# Altium schematic symbol library 16Transmit_demo.SCHLIB: 51 symbols
Pins are listed as number, name and electrical type; pins without a type are passive.

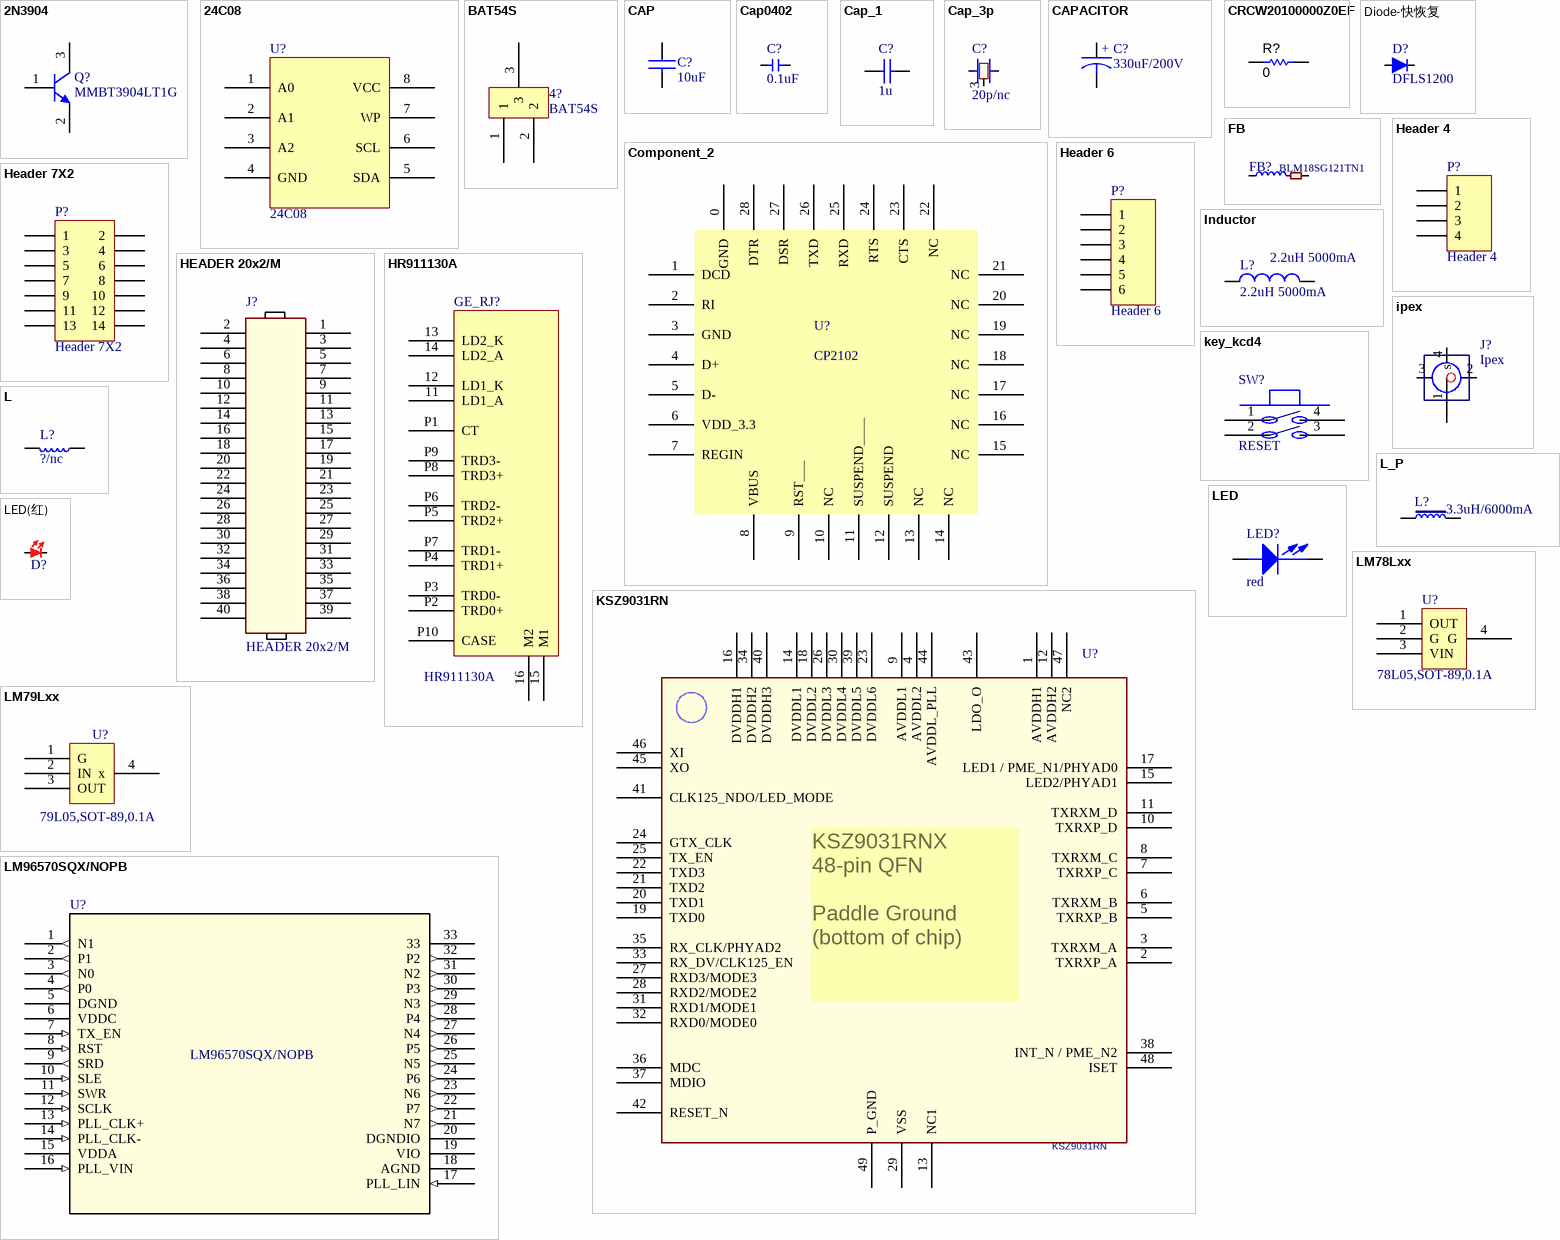
[diagram p0: symbols 2N3904 to LM96570SQX/NOPB]

## 2N3904
designator Q?, comment MMBT3904LT1G
NPN General Purpose Amplifier; Published: 8-Jun-2000; LatestRevisionDate: 15-Jan-2003; LatestRevisionNote: PCB Footprint 'BCY-W3/D4.7' replaced; DatasheetVersion: 1997; PackageVersion: Sep-1998; PackageReference: TO-92A; Publisher: Altium Limited; PackageDescription: TO, Flat Index; 3 In-Line, Axial Leads; Body Dia. 4.5mm; Leads 0.51 x 0.48 mm (max); ComponentLink1Description: Manufacturer Link; ComponentLink1URL: http://www.fairchildsemi.com/; ComponentLink2Description: Datasheet; ComponentLink2URL: http://www.fairchildsemi.com/ds/2N%2F2N3904.pdf
simulation model 2N3904 (NPN)
signal-integrity model 2N3904
footprint SOT-23
pins: 1 B, 2 E, 3 C

## 24C08
designator U?
footprint 8S1_SOIC8
pins: 1 A0, 2 A1, 3 A2, 4 GND, 5 SDA, 6 SCL, 7 WP, 8 VCC

## BAT54S
designator 4?
footprint SOT-23
pins: 1, 2, 3

## CAP
designator C?, comment 10uF
footprint 0805
footprint C0805
pins: 1, 2

## Cap0402
designator C?, comment 0.1uF
Ceramic Cap; Published: 8-Jun-2000; LatestRevisionDate: 17-Jul-2002; LatestRevisionNote: Re-released for DXP Platform.; PackageReference: RAD-0.3; Publisher: Altium Limited
footprint RAD-0.3 (Capacitor; 2 Leads)
footprint VP32-3.2 (Capacitor, Ceramic, Thru-Hole, Dipped Radial; Body 5.1 x 3.2 mm (WxT) Pin Spacing 2.54 mm (typ))
footprint VP45-3.2 (Capacitor, Ceramic, Thru-Hole, Dipped Radial; Body 7.8 x 3.2 mm (WxT) Pin Spacing 5.08 mm (typ))
footprint C0603
footprint C0402
footprint SC0603
pins: 1, 2

## Cap_1
designator C?, comment 1u
TDK,C1608X5R0J105K,1u/0603; Published: 8-Jun-2000; Revision: July-2002: Re-released for DXP Platform.; Publisher: Altium Limited
footprint 0603
footprint 1206
footprint 0805
footprint CAP_3KV
footprint 0402
footprint SC0603
pins: 1, 2

## Cap_3p
designator C?, comment 20p/nc
Capacitor; Published: 8-Jun-2000; Revision: July-2002: Re-released for DXP Platform.; Publisher: Altium Limited
footprint C0805-3P (C0805，NFM or NFL)
pins: 1, 2, 3 G

## CAPACITOR
designator C?, comment 330uF/200V
Capacitor
footprint PEG225-27
footprint CAP_SMD9
footprint 1206
footprint 7343
footprint P1812 (Chip Capacitor; Body 4.5 x 3.2 mm (LxW typ))
footprint CAP-17mm-7mm (body17mm,pin-pitch7mm)
footprint CAP_SMD7 (body7mm)
footprint CAP_SMD12_5
footprint CAP-TH_BD22.0-P10.00-D2.3-FD
pins: 1, 2
text: +

## Component_2
designator U?, comment CP2102
footprint CP2102
footprint CP2102
pins: 0 GND (power), 1 DCD (oc), 2 RI (oc), 3 GND (oc), 4 D+ (oc), 5 D- (oc), 6 VDD_3.3 (oc), 7 REGIN (oc), 8 VBUS (oc), 9 RST___ (oc), 10 NC (oc), 11 SUSPEND____ (oc), 12 SUSPEND (oc), 13 NC (oc), 14 NC (oc), 15 NC (oc), 16 NC (oc), 17 NC (oc), 18 NC (oc), 19 NC (oc), 20 NC (oc), 21 NC (oc), 22 NC (oc), 23 CTS (oc), 24 RTS (oc), 25 RXD (oc), 26 TXD (oc), 27 DSR (oc), 28 DTR (oc)

## CRCW20100000Z0EF
designator R?  ValueDisplayed: 0  (hidden comment: CRCW20100000Z0EF)
RES, 0, 5%, 0.75 W, AEC-Q200 Grade 0, 2010; Manufacturer: Vishay-Dale; CompType: Resistor; Value: 0; Value_Code: 0000; Tolerance_%: 5; Power_W: 0.75; Value2: 0.75W; TempCo: ppm/C; SizeArea_mm2: 12.5; SizeY_mm: 2.5; SizeZ_mm: 1.66; EIA_Code: E24; U/M: EA; AEC Category: Q200; AEC Qualified: Y; SymbolVersion: 2009-05-29; PartNumber: CRCW20100000Z0EF; PackageReference: 2010; RoHS: Y; Res_ohm: 0; Value1: 5%; MountType: SMT; Technology: Thick Film; SizeX_mm: 5; Published: 2008-06-26; Publisher: Texas Instruments; LatestRevisionDate: 2017-04-20; ComponentLink1Description: Datasheet link; ComponentLink1URL: http://www.vishay.com/doc?20035; Supplier 1: Digi-Key; Supplier Part Number 1: 541-0.0WCT-ND; AEC Grade: 0
signal-integrity model Resistor
simulation model Resistor
footprint 2010M
footprint 2010L (pitch=4.3mm)
pins: 1, 2

## Diode-快恢复
designator D?, comment DFLS1200
DFLS1200,VR200V,DIODES INCOR
footprint D1605-DIP
footprint D8060-SMD
footprint D7227-SMD-SS(1-3)4
footprint D1206-2N
footprint DFN2510P10E
pins: 1 A, 2 K

## FB
designator FB?, comment BLM18SG121TN1
Ferrite Bead,120R@100M,25%,3000mA,0603; Published: 8-Jun-2000; Revision: July-2002: Re-released for DXP Platform.; Publisher: Altium Limited
footprint 0603
footprint 1206
footprint 0805
footprint 2512
footprint L0603
footprint SL0603
pins: 1, 2
1 alternate drawing of the same symbol

## Header 4
designator P?
Header, 4-Pin; LatestRevisionDate: 17-Jul-2002; LatestRevisionNote: Re-released for DXP Platform.; Publisher: Altium Limited
footprint CONN-TH_4P-P3.81_KF2EDGR-3.81-4P
pins: 1, 2, 3, 4

## Header 6
designator P?
接插件; LatestRevisionDate: 17-Jul-2002; LatestRevisionNote: Re-released for DXP Platform.; Publisher: Altium Limited
footprint CONN-TH_6P-P3.81_KF2EDGR-3.81-6P
pins: 1, 2, 3, 4, 5, 6

## Header 7X2
designator P?
Header, 7-Pin, Dual row; LatestRevisionDate: 17-Jul-2002; LatestRevisionNote: Re-released for DXP Platform.; Publisher: Altium Limited
signal-integrity model Connector
footprint IDC-TH_14P-P2.00-V-M-R2-C7-S2.00
pins: 1, 2, 3, 4, 5, 6, 7, 8, 9, 10, 11, 12, 13, 14

## HEADER 20x2/M
designator J?
footprint IDC-40J
pins: 1, 2, 3, 4, 5, 6, 7, 8, 9, 10, 11, 12, 13, 14, 15, 16, 17, 18, 19, 20, 21, 22, 23, 24, 25, 26, 27, 28, 29, 30, 31, 32, 33, 34, 35, 36, 37, 38, 39, 40

## HR911130A
designator GE_RJ?
footprint GE_RJ45; pin to pad P1>1 P2>2 P3>3 P4>4 P5>5 P6>6 P7>7 P8>8 P9>9 P10>10
pins: 11 LD1_A, 12 LD1_K, 13 LD2_K, 14 LD2_A, 15 M1, 16 M2, P1 CT, P2 TRD0+, P3 TRD0-, P4 TRD1+, P5 TRD2+, P6 TRD2-, P7 TRD1-, P8 TRD3+, P9 TRD3-, P10 CASE

## Inductor
designator L?, comment 2.2uH 5000mA
Inductor; Code_IEC: 1005; Published: 8-Jun-2000; LatestRevisionDate: 29-May-2009; LatestRevisionNote: IPC-7351 Footprint Added.; PackageReference: 0402-A; Publisher: Altium Limited; PackageDescription: Chip Inductor; Code_JEITA: 0402; Value: 2.2uH 5000mA
footprint 0402-A (Chip Inductor, Body 1.0x0.5mm, IPC High Density)
footprint INDC1608L (Chip Inductor, Body 1.6x0.8mm, IPC High Density)
footprint 2029 (Chip Inductor, Body 2.0x1.2mm, IPC High Density)
footprint 0603 (Chip Inductor, Body 0.6x0.3mm, IPC High Density)
footprint INDC3216 (Chip Inductor, Body 3.2x1.6mm, IPC High Density)
footprint INDC4532 (Chip Inductor, Body 4.5x3.2mm, IPC High Density)
simulation model INDUCTOR (Inductor)
signal-integrity model Inductor
footprint L0402
footprint IND-SMD_L5.4-W5.2_FXL0530
pins: 1, 2

## ipex
designator J?, comment Ipex
ULF, IPX 20279-001E , 3*3*1.25MM ,50Ω,0-4GHZ
footprint ipex-4p (4 pin,pad pitch 2.6mm,cylinder 2mm)
pins: 1 s, 2 g, 3 g2, 4 g3

## key_kcd4
designator SW?, comment RESET
footprint key_kcd4 (kcd4,4pin,32*25)
footprint SW_PB4
footprint pb (CFP, 4-Leads, Body 5.1x5.1mm (max), Pitch 2.50mm, IPC Medium Density)
pins: 1, 2, 3, 4

## KSZ9031RN
designator U?
footprint LQFP-48
footprint QFN-48_L7.0-W7.0-P0.50
pins: 1 AVDDH1, 2 TXRXP_A, 3 TXRXM_A, 4 AVDDL2, 5 TXRXP_B, 6 TXRXM_B, 7 TXRXP_C, 8 TXRXM_C, 9 AVDDL1, 10 TXRXP_D, 11 TXRXM_D, 12 AVDDH2, 13 NC1, 14 DVDDL1, 15 LED2/PHYAD1, 16 DVDDH1, 17 LED1 / PME_N1/PHYAD0, 18 DVDDL2, 19 TXD0, 20 TXD1, 21 TXD2, 22 TXD3, 23 DVDDL6, 24 GTX_CLK, 25 TX_EN, 26 DVDDL3, 27 RXD3/MODE3, 28 RXD2/MODE2, 29 VSS, 30 DVDDL4, 31 RXD1/MODE1, 32 RXD0/MODE0, 33 RX_DV/CLK125_EN, 34 DVDDH2, 35 RX_CLK/PHYAD2, 36 MDC, 37 MDIO, 38 INT_N / PME_N2, 39 DVDDL5, 40 DVDDH3, 41 CLK125_NDO/LED_MODE, 42 RESET_N, 43 LDO_O, 44 AVDDL_PLL, 45 XO, 46 XI, 47 NC2, 48 ISET, 49 P_GND
text: KSZ9031RNX / 48-pin QFN / Paddle Ground / (bottom of chip)

## L
designator L?, comment ?/nc
inductor; Published: 8-Jun-2000; Revision: July-2002: Re-released for DXP Platform.; Publisher: Altium Limited
footprint 0603
footprint 1206
footprint 0805
footprint 2512
footprint L0603
footprint SL0603
pins: 1, 2
1 alternate drawing of the same symbol

## L_P
designator L?, comment 3.3uH/6000mA
power inductor,magetic shild,7x7mm; Published: 8-Jun-2000; Revision: July-2002: Re-released for DXP Platform.; Publisher: Altium Limited
footprint 0603
footprint 1206
footprint 0805
footprint 2512
footprint CDRH6D38NP_5R
footprint COILCRAFT-1008PS
pins: 1, 2
1 alternate drawing of the same symbol

## LED
designator LED?, comment red
footprint LED0603
pins: 1 ANODE, 2 CATHODE

## LED(红)
designator D?  (value not drawn)
footprint LED0603
pins: 1, 2

## LM78Lxx
designator U?, comment 78L05,SOT-89,0.1A
footprint SOT-89 (SOT-89,small package of SOT-23)
pins: 1 OUT, 2 G, 3 VIN, 4 G

## LM79Lxx
designator U?, comment 79L05,SOT-89,0.1A
footprint SOT-89 (SOT-89,small package of SOT-23)
pins: 1 G, 2 IN, 3 OUT, 4 x

## LM96570SQX/NOPB
designator U?
Ultrasound Configurable Transmit Beamformer; Manufacturer: Texas Instruments; NSC_PackageReference: SQA32A; DatasheetURL: http://www.ti.com/lit/ds/symlink/lm96570.pdf; basePN: LM96570; Vendor: Texas Instruments; Copyright: Copyright (C) 2018 Accelerated Designs. All rights reserved; RefDes: RefDes; Type: DEV
footprint SQA32A
pins: 1 N1 (out), 2 P1 (out), 3 N0 (out), 4 P0 (out), 5 DGND (power), 6 VDDC (power), 7 TX_EN (in), 8 RST (in), 9 SRD (out), 10 SLE (in), 11 SWR (in), 12 SCLK (in), 13 PLL_CLK+ (in), 14 PLL_CLK- (in), 15 VDDA (power), 16 PLL_VIN (in), 17 PLL_LIN (in), 18 AGND (power), 19 VIO (power), 20 DGNDIO (power), 21 N7 (out), 22 P7 (out), 23 N6 (out), 24 P6 (out), 25 N5 (out), 26 P5 (out), 27 N4 (out), 28 P4 (out), 29 N3 (out), 30 P3 (out), 31 N2 (out), 32 P2 (out), 33

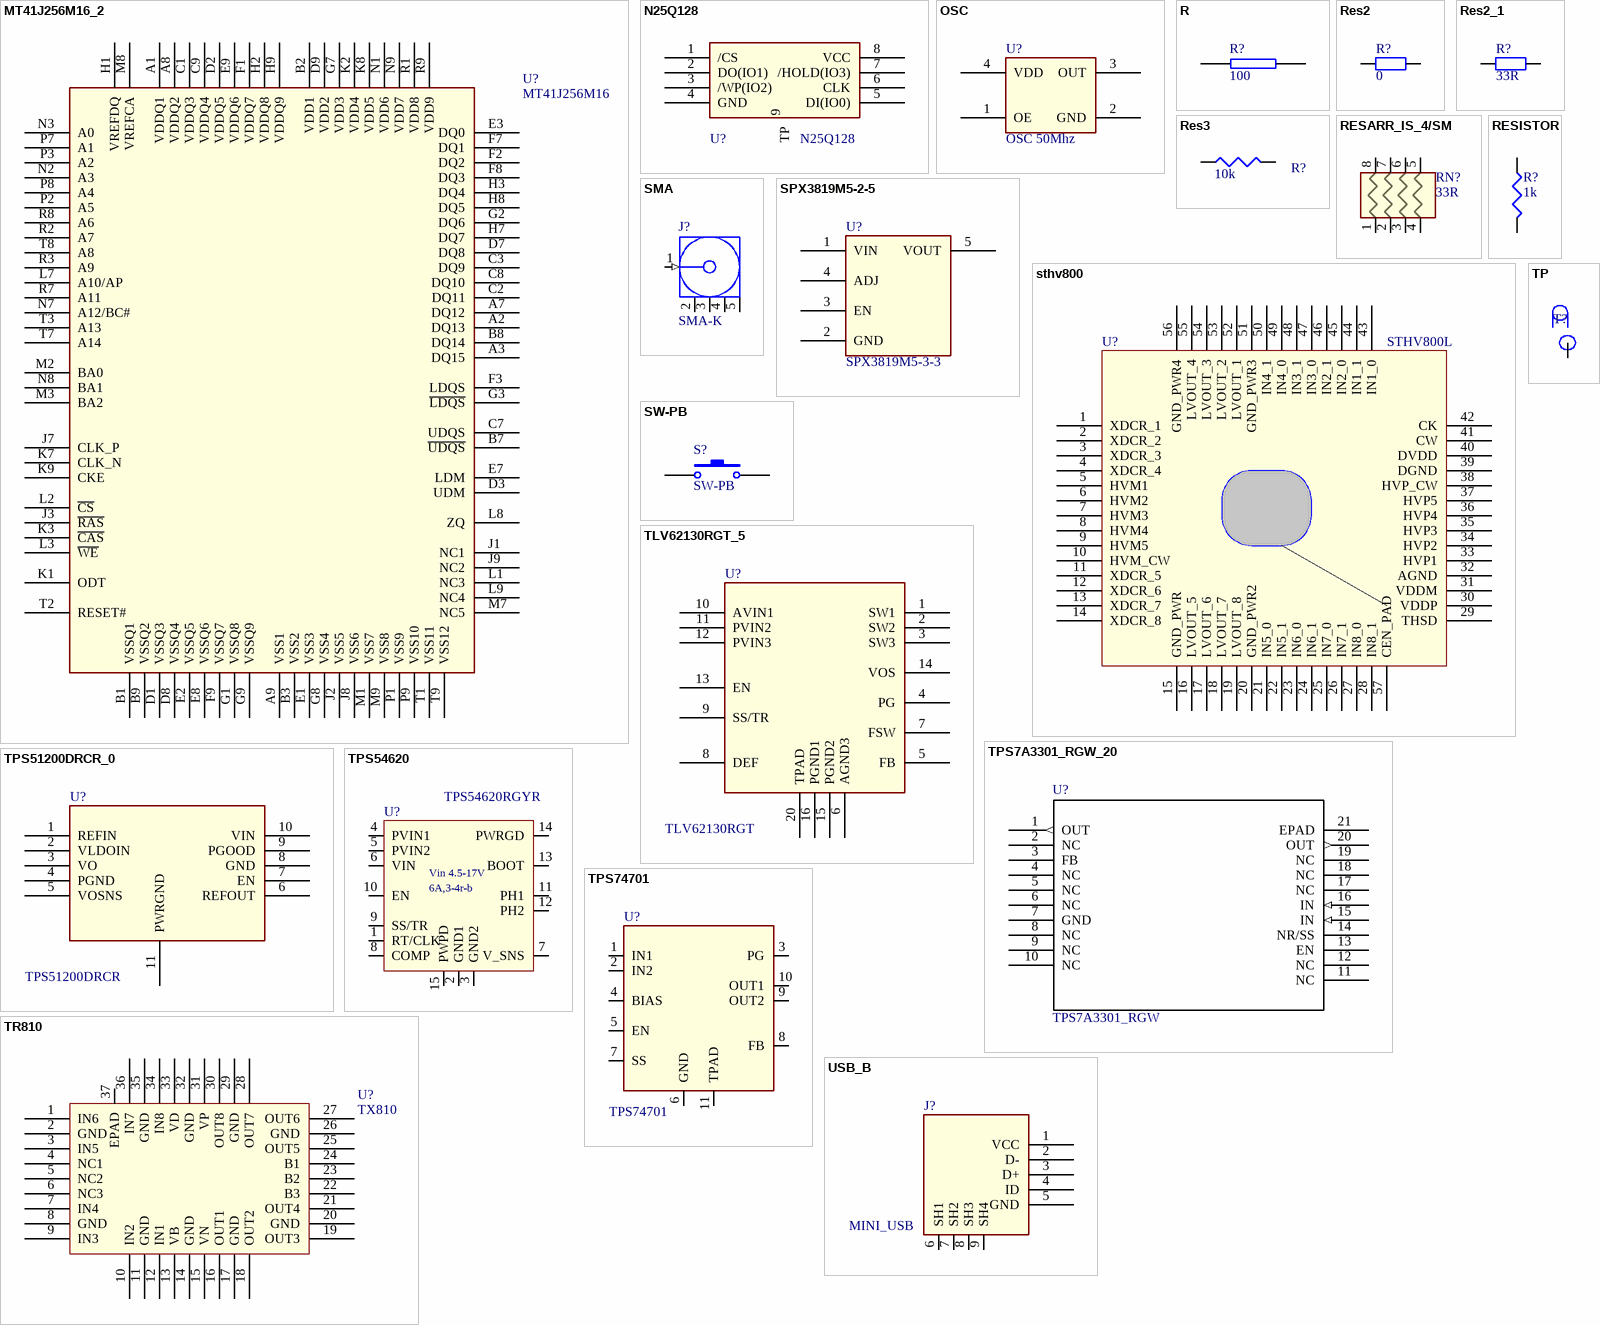
[diagram p1: symbols MT41J256M16_2 to USB_B]

## MT41J256M16_2
designator U?, comment MT41J256M16
footprint FBGA_96
pins: A1 VDDQ1 (power), A2 DQ13 (power), A3 DQ15 (power), A7 DQ12 (power), A8 VDDQ2 (power), A9 VSS1 (power), B1 VSSQ1 (power), B2 VDD1 (power), B3 VSS2 (power), B7 ~{UDQS} (power), B8 DQ14 (power), B9 VSSQ2 (power), C1 VDDQ3 (power), C2 DQ11 (power), C3 DQ9 (power), C7 UDQS (power), C8 DQ10 (power), C9 VDDQ4 (power), D1 VSSQ3 (power), D2 VDDQ5 (power), D3 UDM, D7 DQ8 (power), D8 VSSQ4 (power), D9 VDD2 (power), E1 VSS3 (power), E2 VSSQ5 (power), E3 DQ0 (power), E7 LDM, E8 VSSQ6 (power), E9 VDDQ6 (power), F1 VDDQ7 (power), F2 DQ2 (power), F3 LDQS (power), F7 DQ1 (power), F8 DQ3 (power), F9 VSSQ7 (power), G1 VSSQ8 (power), G2 DQ6 (power), G3 ~{LDQS} (power), G7 VDD3 (power), G8 VSS4 (power), G9 VSSQ9 (power), H1 VREFDQ (power), H2 VDDQ8 (power), H3 DQ4 (power), H7 DQ7 (power), H8 DQ5 (power), H9 VDDQ9 (power), J1 NC1, J2 VSS5 (power), J3 ~{RAS}, J7 CLK_P, J8 VSS6 (power), J9 NC2, K1 ODT, K2 VDD4 (power), K3 ~{CAS}, K7 CLK_N, K8 VDD5 (power), K9 CKE, L1 NC3, L2 ~{CS}, L3 ~{WE}, L7 A10/AP, L8 ZQ (power), L9 NC4, M1 VSS7 (power), M2 BA0, M3 BA2, M7 NC5, M8 VREFCA (power), M9 VSS8 (power), N1 VDD6 (power), N2 A3, N3 A0, N7 A12/BC#, N8 BA1, N9 VDD7 (power), P1 VSS9 (power), P2 A5, P3 A2, P7 A1, P8 A4, P9 VSS10 (power), R1 VDD8 (power), R2 A7, R3 A9, R7 A11, R8 A6, R9 VDD9 (power), T1 VSS11 (power), T2 RESET# (power), T3 A13, T7 A14 (power), T8 A8, T9 VSS12 (power)

## N25Q128
designator U?
footprint SOP8_Wide
pins: 1 /CS, 2 DO(IO1), 3 /WP(IO2), 4 GND, 5 DI(IO0), 6 CLK, 7 /HOLD(IO3), 8 VCC, 9 TP

## OSC
designator U?, comment OSC 50Mhz
footprint OSC3_2X2_5
footprint XTAL-3225 (SMT,3.2x2.5mm, pin1/3 sig;pin2/4 gnd)
pins: 1 OE, 2 GND, 3 OUT, 4 VDD

## R
designator R?, comment 100
SMD2512
footprint 2512
footprint 0805
footprint R0805
pins: 1, 2

## Res2
designator R?, comment 0
Resistor; Published: 8-Jun-2000; LatestRevisionDate: 17-Jul-2002; LatestRevisionNote: Re-released for DXP Platform.; PackageReference: AXIAL-0.4; Publisher: Altium Limited; PackageDescription: Axial Device, Thru-Hole; 2 Leads; 0.4 in Pin Spacing
footprint AXIAL-0.4 (Axial Device, Thru-Hole; 2 Leads; 0.4 in Pin Spacing)
simulation model RESISTOR (Resistor)
signal-integrity model Res
pins: 1, 2

## Res2_1
designator R?, comment 33R
Resistor; Published: 8-Jun-2000; Revision: July-2002: Re-released for DXP Platform.; Publisher: Altium Limited
footprint 0603
footprint 1206
footprint 0805
footprint 2512
footprint 0402 (Chip Capacitor; Body 1.0 x 0.5 mm (LxW typ))
footprint R0402
pins: 1, 2
1 alternate drawing of the same symbol

## Res3
designator R?, comment 10k
Resistor; Published: 8-Jun-2000; LatestRevisionDate: 29-May-2009; LatestRevisionNote: IPC-7351 Footprint Added.; PackageReference: J1-0603; Publisher: Altium Limited; PackageDescription: Chip Resistor
footprint J1-0603 (Chip Resistor, Body 1.6x0.8mm, IPC High Density)
simulation model RESISTOR (Resistor)
signal-integrity model Res
footprint 0603
footprint R0603
footprint SR0603
pins: 1, 2

## RESARR_IS_4/SM
designator RN?, comment 33R
footprint RN-8P
pins: 1, 2, 3, 4, 5, 6, 7, 8

## RESISTOR
designator R?, comment 1k
footprint 0603
footprint R0603
footprint SR0603
pins: 1, 2

## SMA
designator J?, comment SMA-K
SMA-K外螺纹+母; DatasheetVersion: revB, Feb-2010; PackageVersion: revB, Feb-2010; PackageReference: CON-SMA-L; PackageDescription: SMA Female PCB Mount Connector, Extended, Thru-Hole, 7 x 7 mm Body; ComponentLink1Description: Manufacturer URL; ComponentLink1URL: http://www.linxtechnologies.com/; ComponentLink2Description: Datasheet; ComponentLink2URL: http://www.connectorcity.com/diagrams/SMA/CONSMA008.pdf
footprint SMA_P
pins: 1 Signal (in) "Signal Pin", 2 GND (power), 3 GND (power), 4 GND (power), 5 GND (power)

## SPX3819M5-2-5
designator U?, comment SPX3819M5-3-3
footprint SOT-23-5
pins: 1 VIN, 2 GND, 3 EN, 4 ADJ, 5 VOUT

## sthv800
designator U?, comment STHV800L
8 CH,20M,+-90V,HIGH VOLTAGE PULSE GENERATOR
footprint TFLGA-56LD (QFN, 56-Leads, Body 7.8x7.8mm (max), Pitch 0.45mm, IPC Medium Density)
pins: 1 XDCR_1, 2 XDCR_2, 3 XDCR_3, 4 XDCR_4, 5 HVM1, 6 HVM2, 7 HVM3, 8 HVM4, 9 HVM5, 10 HVM_CW, 11 XDCR_5, 12 XDCR_6, 13 XDCR_7, 14 XDCR_8, 15 GND_PWR, 16 LVOUT_5, 17 LVOUT_6, 18 LVOUT_7, 19 LVOUT_8, 20 GND_PWR2, 21 IN5_0, 22 IN5_1, 23 IN6_0, 24 IN6_1, 25 IN7_0, 26 IN7_1, 27 IN8_0, 28 IN8_1, 29 THSD, 30 VDDP, 31 VDDM, 32 AGND, 33 HVP1, 34 HVP2, 35 HVP3, 36 HVP4, 37 HVP5, 38 HVP_CW, 39 DGND, 40 DVDD, 41 CW, 42 CK, 43 IN1_0, 44 IN1_1, 45 IN2_0, 46 IN2_1, 47 IN3_0, 48 IN3_1, 49 IN4_0, 50 IN4_1, 51 GND_PWR3, 52 LVOUT_1, 53 LVOUT_2, 54 LVOUT_3, 55 LVOUT_4, 56 GND_PWR4, 57 CEN_PAD

## SW-PB
designator S?
Switch; Published: 24-Mar-1999; LatestRevisionDate: 17-Jul-2002; LatestRevisionNote: Re-released for DXP Platform.; PackageReference: SPST-2; Publisher: Altium Limited; PackageDescription: Switch; 2 Leads
footprint SW-SMD_L6.0-W3.3-LS8.0-EH
pins: 1, 2

## TLV62130RGT_5
designator U?, comment TLV62130RGT
footprint TLV62130RGT
pins: 1 SW1, 2 SW2, 3 SW3, 4 PG, 5 FB, 6 AGND3, 7 FSW, 8 DEF, 9 SS/TR, 10 AVIN1, 11 PVIN2, 12 PVIN3, 13 EN, 14 VOS, 15 PGND2, 16 PGND1, 20 TPAD

## TP
designator T?  (value not drawn)
footprint TP1.5 (hole 0.9mm,pad 1.5mm)
pins: 1 T "TestPoint/NC"

## TPS7A3301_RGW_20
designator U?, comment TPS7A3301_RGW
1a  negetive-Voltage LDO ,Vin -3~-36v; Manufacturer_Part_Number: tps7a3301_rgw_20; Vendor: Texas Instruments; PACKAGE_DESIGNATOR: RGW; PIN_COUNT: 20; FAMILY_NAME: SINGLE CHANNEL LDO; INDUSTRY_STD_PKG_TYPE: VQFN; GENERIC_PART_NUMBER: TPS7A3301; Datasheet URL: http://www.ti.com/lit/gpn/TPS7A3301; Manufacturer: Texas Instruments; RefDes: RefDes; Type: DEV; Value: Value
footprint RGW0020A
pins: 1 OUT (out), 2 NC, 3 FB, 4 NC, 5 NC, 6 NC, 7 GND (power), 8 NC, 9 NC, 10 NC, 11 NC, 12 NC, 13 EN, 14 NR/SS, 15 IN (in), 16 IN (in), 17 NC, 18 NC, 19 NC, 20 OUT (out), 21 EPAD

## TPS51200DRCR_0
designator U?, comment TPS51200DRCR
footprint TPS51200DRCR
pins: 1 REFIN, 2 VLDOIN, 3 VO, 4 PGND, 5 VOSNS, 6 REFOUT, 7 EN, 8 GND, 9 PGOOD, 10 VIN, 11 PWRGND

## TPS54620
designator U?, comment TPS54620RGYR
footprint VQFN_3_5
pins: 1 RT/CLK, 2 GND1, 3 GND2, 4 PVIN1, 5 PVIN2, 6 VIN, 7 V_SNS, 8 COMP, 9 SS/TR, 10 EN, 11 PH1, 12 PH2, 13 BOOT, 14 PWRGD, 15 PWPD
text: Vin 4.5-17V; 6A,3-4r-b

## TPS74701
designator U?
footprint SON10_3X3
pins: 1 IN1, 2 IN2, 3 PG, 4 BIAS, 5 EN, 6 GND, 7 SS, 8 FB, 9 OUT2, 10 OUT1, 11 TPAD

## TR810
designator U?, comment TX810
8CH PROG T/R US SWITCH
footprint QFN50P600X600X100-36N (QFN, 36-Leads, Body 6.1x6.1mm (max), Pitch 0.50mm, IPC Medium Density)
pins: 1 IN6, 2 GND, 3 IN5, 4 NC1, 5 NC2, 6 NC3, 7 IN4, 8 GND, 9 IN3, 10 IN2, 11 GND, 12 IN1, 13 VB, 14 GND, 15 VN, 16 OUT1, 17 GND, 18 OUT2, 19 OUT3, 20 GND, 21 OUT4, 22 B3, 23 B2, 24 B1, 25 OUT5, 26 GND, 27 OUT6, 28 OUT7, 29 GND, 30 OUT8, 31 VP, 32 GND, 33 VD, 34 IN8, 35 GND, 36 IN7, 37 EPAD

## USB_B
designator J?, comment MINI_USB
footprint MINIUSBB
pins: 1 VCC, 2 D-, 3 D+, 4 ID, 5 GND, 6 SH1 (power), 7 SH2 (power), 8 SH3 (power), 9 SH4 (power)

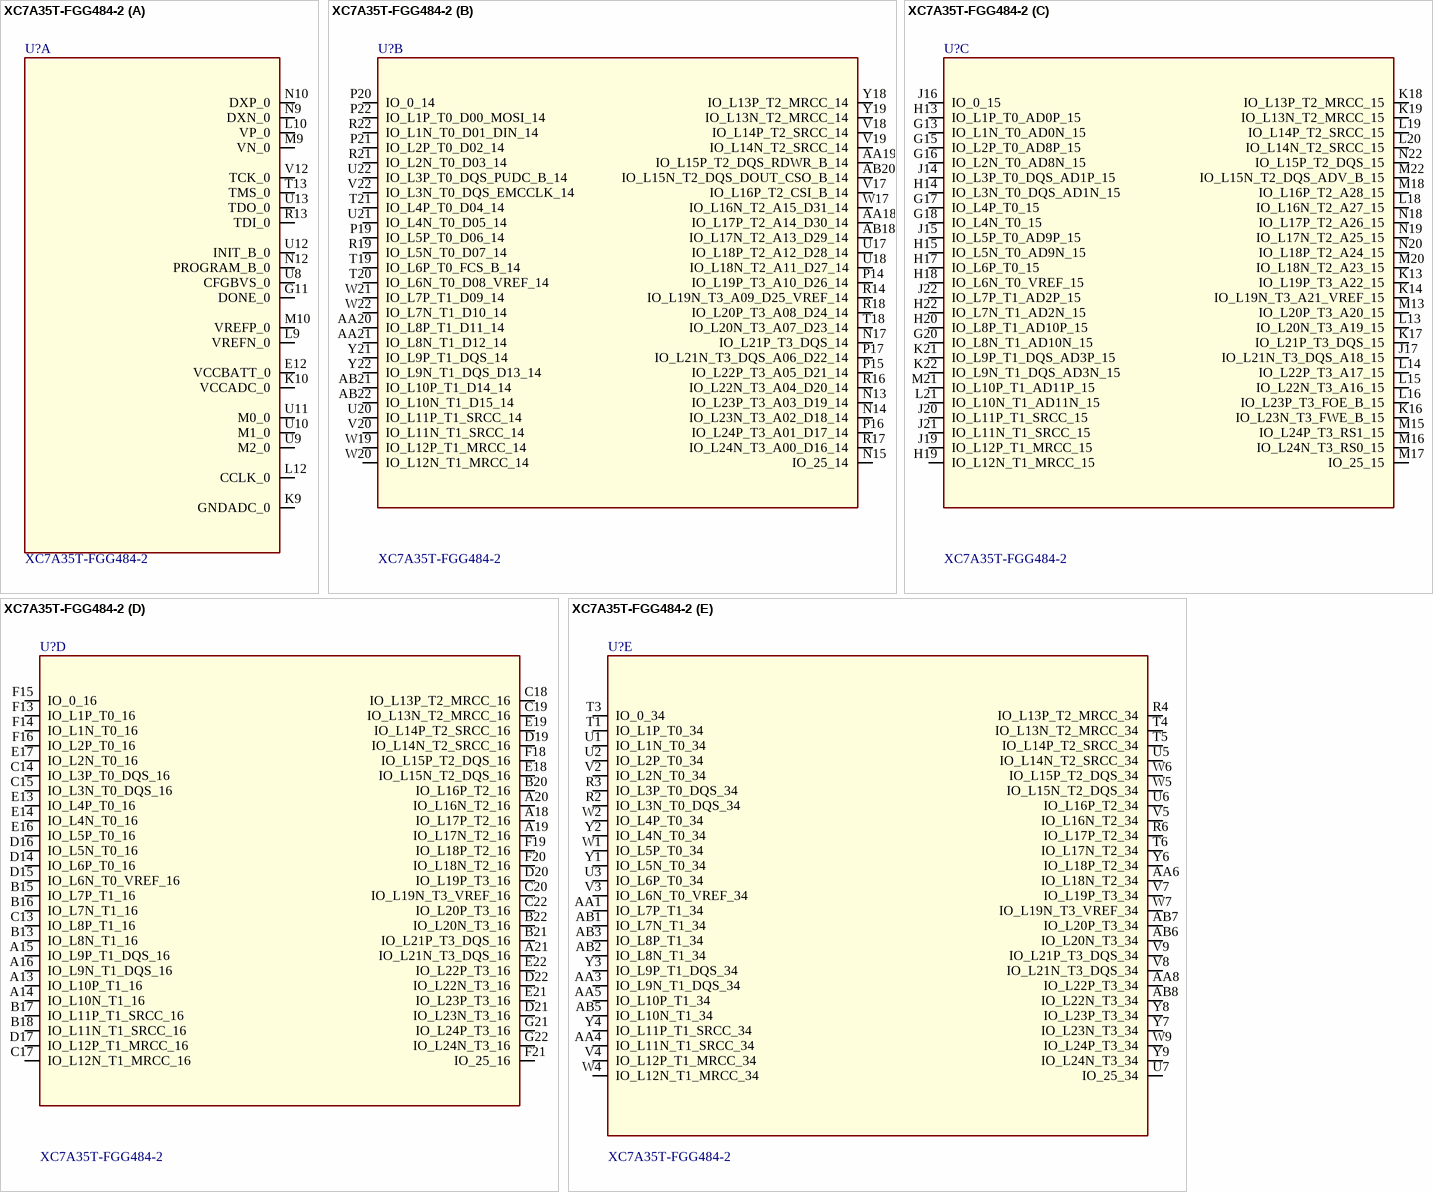
[diagram p2: symbol XC7A35T-FGG484-2]

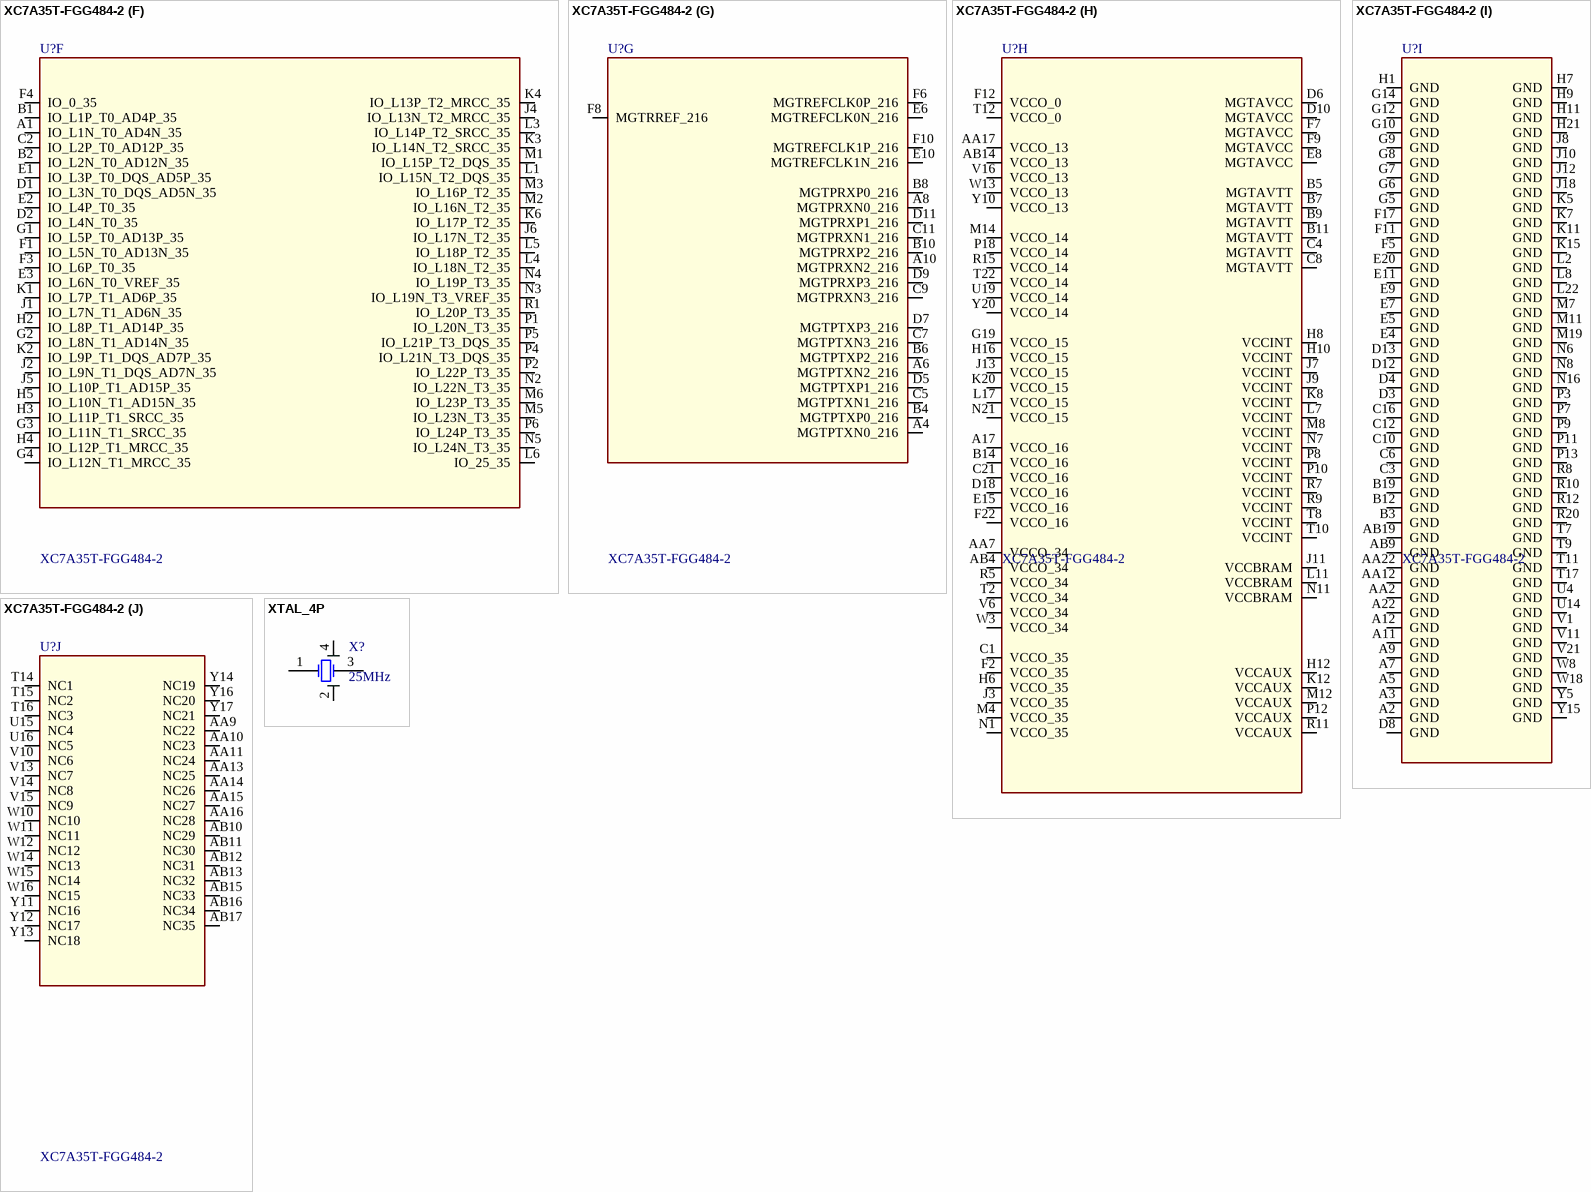
[diagram p3: symbols XC7A35T-FGG484-2 to XTAL_4P]

## XC7A35T-FGG484-2
designator U?
SPLIT_INST: TRUE; SWAP_INFO: (S1+S2+S3+S4+S5+S6+S7+S8+S9+S10)
footprint FGG484
part A pins: E12 VCCBATT_0, G11 DONE_0, K9 GNDADC_0, K10 VCCADC_0, L9 VREFN_0, L10 VP_0, L12 CCLK_0, M9 VN_0, M10 VREFP_0, N9 DXN_0, N10 DXP_0, N12 PROGRAM_B_0, R13 TDI_0, T13 TMS_0, U8 CFGBVS_0, U9 M2_0, U10 M1_0, U11 M0_0, U12 INIT_B_0, U13 TDO_0, V12 TCK_0
part B pins: AA18 IO_L17P_T2_A14_D30_14, AA19 IO_L15P_T2_DQS_RDWR_B_14, AA20 IO_L8P_T1_D11_14, AA21 IO_L8N_T1_D12_14, AB18 IO_L17N_T2_A13_D29_14, AB20 IO_L15N_T2_DQS_DOUT_CSO_B_14, AB21 IO_L10P_T1_D14_14, AB22 IO_L10N_T1_D15_14, N13 IO_L23P_T3_A03_D19_14, N14 IO_L23N_T3_A02_D18_14, N15 IO_25_14, N17 IO_L21P_T3_DQS_14, P14 IO_L19P_T3_A10_D26_14, P15 IO_L22P_T3_A05_D21_14, P16 IO_L24P_T3_A01_D17_14, P17 IO_L21N_T3_DQS_A06_D22_14, P19 IO_L5P_T0_D06_14, P20 IO_0_14, P21 IO_L2P_T0_D02_14, P22 IO_L1P_T0_D00_MOSI_14, R14 IO_L19N_T3_A09_D25_VREF_14, R16 IO_L22N_T3_A04_D20_14, R17 IO_L24N_T3_A00_D16_14, R18 IO_L20P_T3_A08_D24_14, R19 IO_L5N_T0_D07_14, R21 IO_L2N_T0_D03_14, R22 IO_L1N_T0_D01_DIN_14, T18 IO_L20N_T3_A07_D23_14, T19 IO_L6P_T0_FCS_B_14, T20 IO_L6N_T0_D08_VREF_14, T21 IO_L4P_T0_D04_14, U17 IO_L18P_T2_A12_D28_14, U18 IO_L18N_T2_A11_D27_14, U20 IO_L11P_T1_SRCC_14, U21 IO_L4N_T0_D05_14, U22 IO_L3P_T0_DQS_PUDC_B_14, V17 IO_L16P_T2_CSI_B_14, V18 IO_L14P_T2_SRCC_14, V19 IO_L14N_T2_SRCC_14, V20 IO_L11N_T1_SRCC_14, V22 IO_L3N_T0_DQS_EMCCLK_14, W17 IO_L16N_T2_A15_D31_14, W19 IO_L12P_T1_MRCC_14, W20 IO_L12N_T1_MRCC_14, W21 IO_L7P_T1_D09_14, W22 IO_L7N_T1_D10_14, Y18 IO_L13P_T2_MRCC_14, Y19 IO_L13N_T2_MRCC_14, Y21 IO_L9P_T1_DQS_14, Y22 IO_L9N_T1_DQS_D13_14
part C pins: G13 IO_L1N_T0_AD0N_15, G15 IO_L2P_T0_AD8P_15, G16 IO_L2N_T0_AD8N_15, G17 IO_L4P_T0_15, G18 IO_L4N_T0_15, G20 IO_L8N_T1_AD10N_15, H13 IO_L1P_T0_AD0P_15, H14 IO_L3N_T0_DQS_AD1N_15, H15 IO_L5N_T0_AD9N_15, H17 IO_L6P_T0_15, H18 IO_L6N_T0_VREF_15, H19 IO_L12N_T1_MRCC_15, H20 IO_L8P_T1_AD10P_15, H22 IO_L7N_T1_AD2N_15, J14 IO_L3P_T0_DQS_AD1P_15, J15 IO_L5P_T0_AD9P_15, J16 IO_0_15, J17 IO_L21N_T3_DQS_A18_15, J19 IO_L12P_T1_MRCC_15, J20 IO_L11P_T1_SRCC_15, J21 IO_L11N_T1_SRCC_15, J22 IO_L7P_T1_AD2P_15, K13 IO_L19P_T3_A22_15, K14 IO_L19N_T3_A21_VREF_15, K16 IO_L23N_T3_FWE_B_15, K17 IO_L21P_T3_DQS_15, K18 IO_L13P_T2_MRCC_15, K19 IO_L13N_T2_MRCC_15, K21 IO_L9P_T1_DQS_AD3P_15, K22 IO_L9N_T1_DQS_AD3N_15, L13 IO_L20N_T3_A19_15, L14 IO_L22P_T3_A17_15, L15 IO_L22N_T3_A16_15, L16 IO_L23P_T3_FOE_B_15, L18 IO_L16N_T2_A27_15, L19 IO_L14P_T2_SRCC_15, L20 IO_L14N_T2_SRCC_15, L21 IO_L10N_T1_AD11N_15, M13 IO_L20P_T3_A20_15, M15 IO_L24P_T3_RS1_15, M16 IO_L24N_T3_RS0_15, M17 IO_25_15, M18 IO_L16P_T2_A28_15, M20 IO_L18N_T2_A23_15, M21 IO_L10P_T1_AD11P_15, M22 IO_L15N_T2_DQS_ADV_B_15, N18 IO_L17P_T2_A26_15, N19 IO_L17N_T2_A25_15, N20 IO_L18P_T2_A24_15, N22 IO_L15P_T2_DQS_15
part D pins: A13 IO_L10P_T1_16, A14 IO_L10N_T1_16, A15 IO_L9P_T1_DQS_16, A16 IO_L9N_T1_DQS_16, A18 IO_L17P_T2_16, A19 IO_L17N_T2_16, A20 IO_L16N_T2_16, A21 IO_L21N_T3_DQS_16, B13 IO_L8N_T1_16, B15 IO_L7P_T1_16, B16 IO_L7N_T1_16, B17 IO_L11P_T1_SRCC_16, B18 IO_L11N_T1_SRCC_16, B20 IO_L16P_T2_16, B21 IO_L21P_T3_DQS_16, B22 IO_L20N_T3_16, C13 IO_L8P_T1_16, C14 IO_L3P_T0_DQS_16, C15 IO_L3N_T0_DQS_16, C17 IO_L12N_T1_MRCC_16, C18 IO_L13P_T2_MRCC_16, C19 IO_L13N_T2_MRCC_16, C20 IO_L19N_T3_VREF_16, C22 IO_L20P_T3_16, D14 IO_L6P_T0_16, D15 IO_L6N_T0_VREF_16, D16 IO_L5N_T0_16, D17 IO_L12P_T1_MRCC_16, D19 IO_L14N_T2_SRCC_16, D20 IO_L19P_T3_16, D21 IO_L23N_T3_16, D22 IO_L22N_T3_16, E13 IO_L4P_T0_16, E14 IO_L4N_T0_16, E16 IO_L5P_T0_16, E17 IO_L2N_T0_16, E18 IO_L15N_T2_DQS_16, E19 IO_L14P_T2_SRCC_16, E21 IO_L23P_T3_16, E22 IO_L22P_T3_16, F13 IO_L1P_T0_16, F14 IO_L1N_T0_16, F15 IO_0_16, F16 IO_L2P_T0_16, F18 IO_L15P_T2_DQS_16, F19 IO_L18P_T2_16, F20 IO_L18N_T2_16, F21 IO_25_16, G21 IO_L24P_T3_16, G22 IO_L24N_T3_16
part E pins: AA1 IO_L7P_T1_34, AA3 IO_L9N_T1_DQS_34, AA4 IO_L11N_T1_SRCC_34, AA5 IO_L10P_T1_34, AA6 IO_L18N_T2_34, AA8 IO_L22P_T3_34, AB1 IO_L7N_T1_34, AB2 IO_L8N_T1_34, AB3 IO_L8P_T1_34, AB5 IO_L10N_T1_34, AB6 IO_L20N_T3_34, AB7 IO_L20P_T3_34, AB8 IO_L22N_T3_34, R2 IO_L3N_T0_DQS_34, R3 IO_L3P_T0_DQS_34, R4 IO_L13P_T2_MRCC_34, R6 IO_L17P_T2_34, T1 IO_L1P_T0_34, T3 IO_0_34, T4 IO_L13N_T2_MRCC_34, T5 IO_L14P_T2_SRCC_34, T6 IO_L17N_T2_34, U1 IO_L1N_T0_34, U2 IO_L2P_T0_34, U3 IO_L6P_T0_34, U5 IO_L14N_T2_SRCC_34, U6 IO_L16P_T2_34, U7 IO_25_34, V2 IO_L2N_T0_34, V3 IO_L6N_T0_VREF_34, V4 IO_L12P_T1_MRCC_34, V5 IO_L16N_T2_34, V7 IO_L19P_T3_34, V8 IO_L21N_T3_DQS_34, V9 IO_L21P_T3_DQS_34, W1 IO_L5P_T0_34, W2 IO_L4P_T0_34, W4 IO_L12N_T1_MRCC_34, W5 IO_L15N_T2_DQS_34, W6 IO_L15P_T2_DQS_34, W7 IO_L19N_T3_VREF_34, W9 IO_L24P_T3_34, Y1 IO_L5N_T0_34, Y2 IO_L4N_T0_34, Y3 IO_L9P_T1_DQS_34, Y4 IO_L11P_T1_SRCC_34, Y6 IO_L18P_T2_34, Y7 IO_L23N_T3_34, Y8 IO_L23P_T3_34, Y9 IO_L24N_T3_34
part F pins: A1 IO_L1N_T0_AD4N_35, B1 IO_L1P_T0_AD4P_35, B2 IO_L2N_T0_AD12N_35, C2 IO_L2P_T0_AD12P_35, D1 IO_L3N_T0_DQS_AD5N_35, D2 IO_L4N_T0_35, E1 IO_L3P_T0_DQS_AD5P_35, E2 IO_L4P_T0_35, E3 IO_L6N_T0_VREF_35, F1 IO_L5N_T0_AD13N_35, F3 IO_L6P_T0_35, F4 IO_0_35, G1 IO_L5P_T0_AD13P_35, G2 IO_L8N_T1_AD14N_35, G3 IO_L11N_T1_SRCC_35, G4 IO_L12N_T1_MRCC_35, H2 IO_L8P_T1_AD14P_35, H3 IO_L11P_T1_SRCC_35, H4 IO_L12P_T1_MRCC_35, H5 IO_L10N_T1_AD15N_35, J1 IO_L7N_T1_AD6N_35, J2 IO_L9N_T1_DQS_AD7N_35, J4 IO_L13N_T2_MRCC_35, J5 IO_L10P_T1_AD15P_35, J6 IO_L17N_T2_35, K1 IO_L7P_T1_AD6P_35, K2 IO_L9P_T1_DQS_AD7P_35, K3 IO_L14N_T2_SRCC_35, K4 IO_L13P_T2_MRCC_35, K6 IO_L17P_T2_35, L1 IO_L15N_T2_DQS_35, L3 IO_L14P_T2_SRCC_35, L4 IO_L18N_T2_35, L5 IO_L18P_T2_35, L6 IO_25_35, M1 IO_L15P_T2_DQS_35, M2 IO_L16N_T2_35, M3 IO_L16P_T2_35, M5 IO_L23N_T3_35, M6 IO_L23P_T3_35, N2 IO_L22N_T3_35, N3 IO_L19N_T3_VREF_35, N4 IO_L19P_T3_35, N5 IO_L24N_T3_35, P1 IO_L20N_T3_35, P2 IO_L22P_T3_35, P4 IO_L21N_T3_DQS_35, P5 IO_L21P_T3_DQS_35, P6 IO_L24P_T3_35, R1 IO_L20P_T3_35
part G pins: A4 MGTPTXN0_216, A6 MGTPTXN2_216, A8 MGTPRXN0_216, A10 MGTPRXN2_216, B4 MGTPTXP0_216, B6 MGTPTXP2_216, B8 MGTPRXP0_216, B10 MGTPRXP2_216, C5 MGTPTXN1_216, C7 MGTPTXN3_216, C9 MGTPRXN3_216, C11 MGTPRXN1_216, D5 MGTPTXP1_216, D7 MGTPTXP3_216, D9 MGTPRXP3_216, D11 MGTPRXP1_216, E6 MGTREFCLK0N_216, E10 MGTREFCLK1N_216, F6 MGTREFCLK0P_216, F8 MGTRREF_216, F10 MGTREFCLK1P_216
part H pins: A17 VCCO_16 (power), AA7 VCCO_34 (power), AA17 VCCO_13 (power), AB4 VCCO_34 (power), AB14 VCCO_13 (power), B5 MGTAVTT (power), B7 MGTAVTT (power), B9 MGTAVTT (power), B11 MGTAVTT (power), B14 VCCO_16 (power), C1 VCCO_35 (power), C4 MGTAVTT (power), C8 MGTAVTT (power), C21 VCCO_16 (power), D6 MGTAVCC (power), D10 MGTAVCC (power), D18 VCCO_16 (power), E8 MGTAVCC (power), E15 VCCO_16 (power), F2 VCCO_35 (power), F7 MGTAVCC (power), F9 MGTAVCC (power), F12 VCCO_0 (power), F22 VCCO_16 (power), G19 VCCO_15 (power), H6 VCCO_35 (power), H8 VCCINT (power), H10 VCCINT (power), H12 VCCAUX (power), H16 VCCO_15 (power), J3 VCCO_35 (power), J7 VCCINT (power), J9 VCCINT (power), J11 VCCBRAM (power), J13 VCCO_15 (power), K8 VCCINT (power), K12 VCCAUX (power), K20 VCCO_15 (power), L7 VCCINT (power), L11 VCCBRAM (power), L17 VCCO_15 (power), M4 VCCO_35 (power), M8 VCCINT (power), M12 VCCAUX (power), M14 VCCO_14 (power), N1 VCCO_35 (power), N7 VCCINT (power), N11 VCCBRAM (power), N21 VCCO_15 (power), P8 VCCINT (power), P10 VCCINT (power), P12 VCCAUX (power), P18 VCCO_14 (power), R5 VCCO_34 (power), R7 VCCINT (power), R9 VCCINT (power), R11 VCCAUX (power), R15 VCCO_14 (power), T2 VCCO_34 (power), T8 VCCINT (power), T10 VCCINT (power), T12 VCCO_0 (power), T22 VCCO_14 (power), U19 VCCO_14 (power), V6 VCCO_34 (power), V16 VCCO_13 (power), W3 VCCO_34 (power), W13 VCCO_13 (power), Y10 VCCO_13 (power), Y20 VCCO_14 (power)
part I pins: A2 GND (power), A3 GND (power), A5 GND (power), A7 GND (power), A9 GND (power), A11 GND (power), A12 GND (power), A22 GND (power), AA2 GND (power), AA12 GND (power), AA22 GND (power), AB9 GND (power), AB19 GND (power), B3 GND (power), B12 GND (power), B19 GND (power), C3 GND (power), C6 GND (power), C10 GND (power), C12 GND (power), C16 GND (power), D3 GND (power), D4 GND (power), D8 GND (power), D12 GND (power), D13 GND (power), E4 GND (power), E5 GND (power), E7 GND (power), E9 GND (power), E11 GND (power), E20 GND (power), F5 GND (power), F11 GND (power), F17 GND (power), G5 GND (power), G6 GND (power), G7 GND (power), G8 GND (power), G9 GND (power), G10 GND (power), G12 GND (power), G14 GND (power), H1 GND (power), H7 GND (power), H9 GND (power), H11 GND (power), H21 GND (power), J8 GND (power), J10 GND (power), J12 GND (power), J18 GND (power), K5 GND (power), K7 GND (power), K11 GND (power), K15 GND (power), L2 GND (power), L8 GND (power), L22 GND (power), M7 GND (power), M11 GND (power), M19 GND (power), N6 GND (power), N8 GND (power), N16 GND (power), P3 GND (power), P7 GND (power), P9 GND (power), P11 GND (power), P13 GND (power), R8 GND (power), R10 GND (power), R12 GND (power), R20 GND (power), T7 GND (power), T9 GND (power), T11 GND (power), T17 GND (power), U4 GND (power), U14 GND (power), V1 GND (power), V11 GND (power), V21 GND (power), W8 GND (power), W18 GND (power), Y5 GND (power), Y15 GND (power)
part J pins: AA9 NC22, AA10 NC23, AA11 NC24, AA13 NC25, AA14 NC26, AA15 NC27, AA16 NC28, AB10 NC29, AB11 NC30, AB12 NC31, AB13 NC32, AB15 NC33, AB16 NC34, AB17 NC35, T14 NC1, T15 NC2, T16 NC3, U15 NC4, U16 NC5, V10 NC6, V13 NC7, V14 NC8, V15 NC9, W10 NC10, W11 NC11, W12 NC12, W14 NC13, W15 NC14, W16 NC15, Y11 NC16, Y12 NC17, Y13 NC18, Y14 NC19, Y16 NC20, Y17 NC21

## XTAL_4P
designator X?, comment 25MHz
Crystal Oscillator; Published: 8-Jun-2000; LatestRevisionDate: 17-Jul-2002; LatestRevisionNote: Re-released for DXP Platform.; PackageReference: R38; Publisher: Altium Limited
footprint XTAL-3225 (SMT,3.2x2.5mm, pin1/3 sig;pin2/4 gnd)
pins: 1 OSC1, 2, 3 OSC2, 4
2 alternate drawings of the same symbol